# Altium schematic symbol library Capacitors.SchLib: 161 symbols (part 5 of 6)
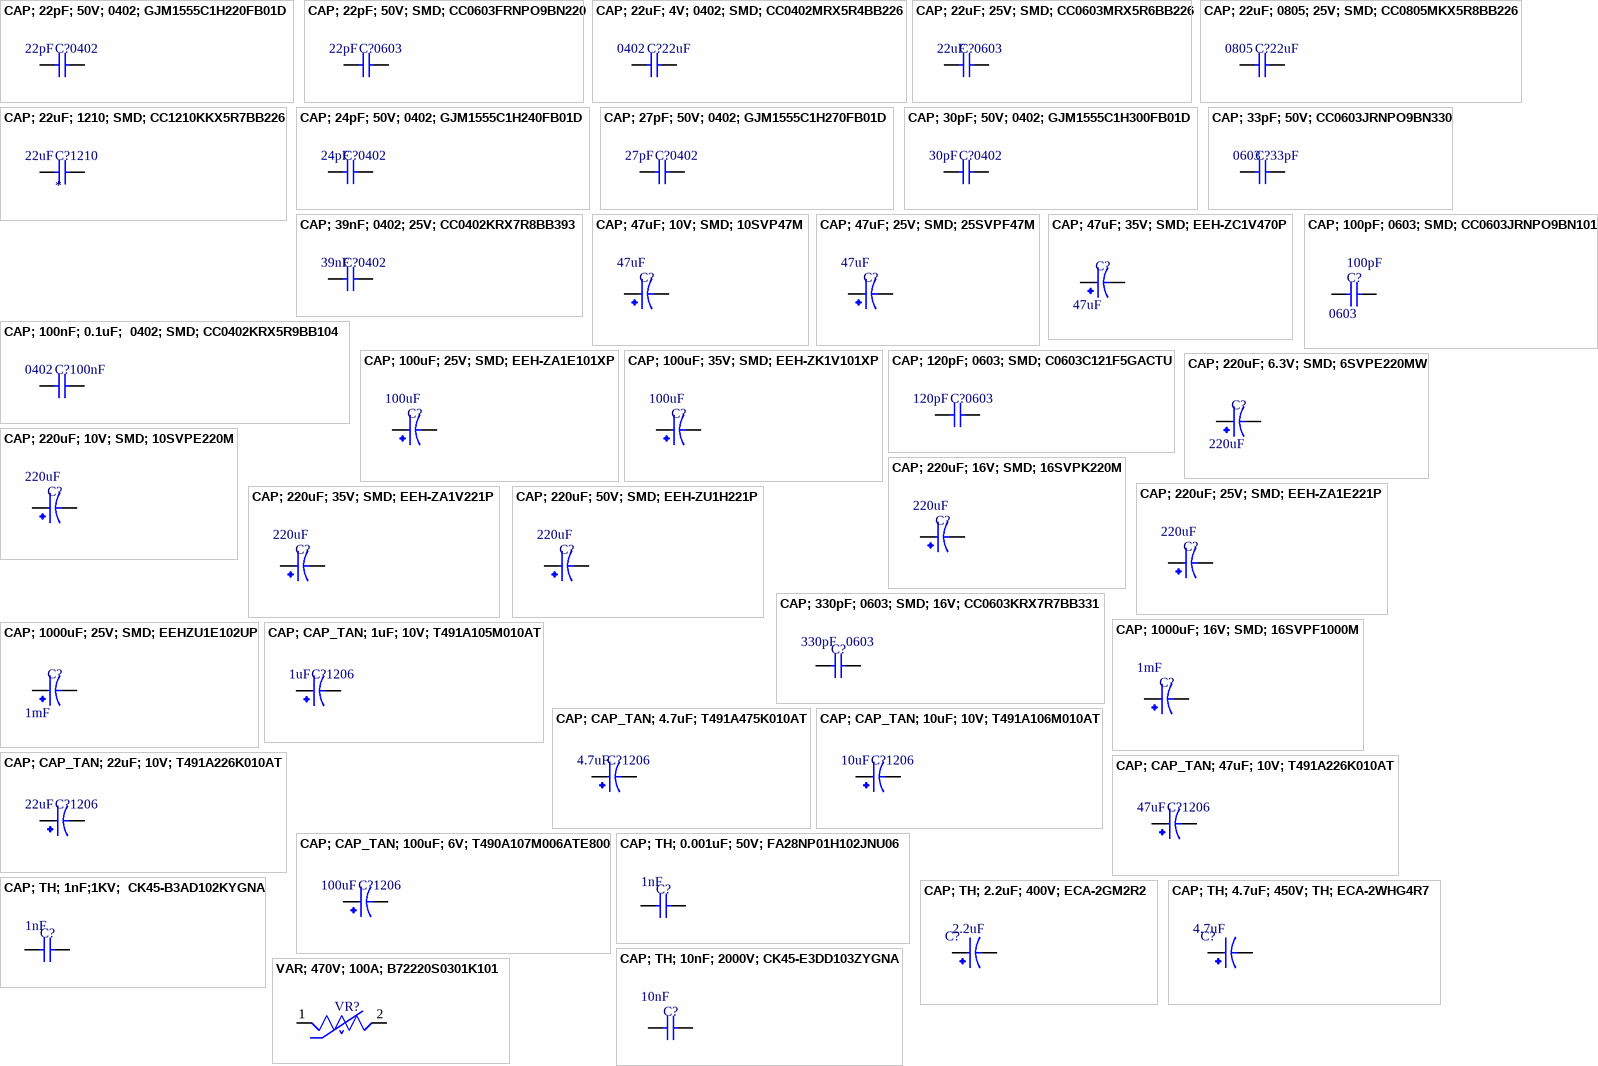
[diagram p8: symbols CAP; 22pF; 50V; 0402; GJM1555C1H220FB01D to VAR; 470V; 100A; B72220S0301K101]

## CAP; 47uF; 25V; SMD; 25SVPF47M
designator C?, comment value 47uF  (hidden comment: 47 µF 25 V Aluminum - Polymer Capacitors Radial, Can - SMD 30mOhm 5000 Hrs @ 105°C)
Cap Aluminum Polymer 47uF 25VDC 20%( 6.3 X 5.9mm) SMD 0.03 Ohm 2800mA 5000h 105C T/R; Manufacturer: Panasonic; Manufacturer Part Number: 25SVPF47M; ESR (Equivalent Series Resistance): 30mR; Ripple Current: 2.8A; Voltage Rating: 25V; Leakage Current: 235uA; Life (Hours): 5000Hour; Dissipation Factor: 12%; Designer: TVBac; Supplier: Digikey; Supplier Part Number: P16513CT-ND; RoHS: Yes; Category: Polymer Capacitors; Stock: 16211; Pricing: 1=1.09, 10=0.772, 50=0.7104, 100=0.649, 500=0.507 (USD); Mounting Technology: Surface Mount; Case/Package: Radial; Pins: 6; Material: Polymer; Min Operating Temperature: -55°C; Max Operating Temperature: 105°C; Tolerance: 20%; Packaging: Tape and Reel; Package Quantity: 1000; Ripple Current (AC): 2.8A; Voltage Rating (DC): 25V; Termination: SMD/SMT; Voltage: 25V; Series: OS-CON™, SVPF; Diameter: 6.3mm; Length: 5.9mm; Height: 5.9mm; Reach SVHC Compliant: No; RoHS Compliant: Yes; ComponentLink1URL: https://datasheet.ciiva.com/25746/1734360-25746558.pdf?src-supplier=Farnell; ComponentLink1Description: https://datasheet.ciiva.com/25746/1734360-25746558.pdf?src-supplier=Farnell; ComponentLink2URL: https://datasheet.ciiva.com/24025/svpf-os-262415-24025725.pdf?src-supplier=Mouser; ComponentLink2Description: https://datasheet.ciiva.com/24025/svpf-os-262415-24025725.pdf?src-supplier=Mouser; ComponentLink3URL: https://datasheet.ciiva.com/48542/svpf-eng-ds-48542390.pdf?src-supplier=Distrelec; ComponentLink3Description: https://datasheet.ciiva.com/48542/svpf-eng-ds-48542390.pdf?src-supplier=Distrelec; ComponentLink4URL: https://datasheet.ciiva.com/22746/1734360-22746218.pdf?src-supplier=Element14; ComponentLink4Description: https://datasheet.ciiva.com/22746/1734360-22746218.pdf?src-supplier=Element14; ComponentLink5Description: Link Digikey; ComponentLink5URL: https://www.digikey.com/en/products/detail/panasonic-electronic-components/25SVPF47M/4204845
footprint SMD-DxLxW-6.3x6.6x6.6-PEC
pins: 1, 2

## CAP; 47uF; 35V; SMD; EEH-ZC1V470P
designator C?, comment value 47uF  (hidden comment: 47 µF 35 V Aluminum - Polymer Capacitors Radial, Can - SMD 60mOhm 4000 Hrs @ 125°C)
Cap Aluminum Polymer Hybrid 47uF 35VDC 20% (6.3 X 5.8mm) SMD 0.06 Ohm 900mA 4000h 125C T/R; Manufacturer: Panasonic; Manufacturer Part Number: EEH-ZC1V470P; Dissipation Factor: 12%; Designer: TVBac; Supplier: Digikey; Supplier Part Number: P15473CT-ND; RoHS: Yes; Category: Polymer Capacitors; Stock: 9327; Pricing: 1=1.12, 10=0.697, 50=0.5252, 100=0.4717, 500=0.38064, 1000=0.35218, 2000=0.32863, 3000=0.31677, 5000=0.30358, 7000=0.29584, 10000=0.28837, 25000=0.2722 (USD); Lead Free: 5697LeadFree; ComponentLink1URL: https://datasheet.ciiva.com/25613/0900766b810af175-25613701.pdf?src-supplier=Rs; ComponentLink1Description: https://datasheet.ciiva.com/25613/0900766b810af175-25613701.pdf?src-supplier=Rs; ComponentLink2URL: https://datasheet.ciiva.com/41449/001179716-da-01-en-elko-vzc-d-47-uf-35v-125c-41449869.pdf?src-supplier=Conrad; ComponentLink2Description: https://datasheet.ciiva.com/41449/001179716-da-01-en-elko-vzc-d-47-uf-35v-125c-41449869.pdf?src-supplier=Conrad; ComponentLink3URL: https://datasheet.ciiva.com/28692/1728949-28692725.pdf?src-supplier=Element14; ComponentLink3Description: https://datasheet.ciiva.com/28692/1728949-28692725.pdf?src-supplier=Element14; ComponentLink4URL: https://datasheet.ciiva.com/30515/70314705-30515160.pdf?src-supplier=Allied+Electronics; ComponentLink4Description: https://datasheet.ciiva.com/30515/70314705-30515160.pdf?src-supplier=Allied+Electronics; ComponentLink5URL: https://datasheet.ciiva.com/48542/eehzc-eng-tds-48542199.pdf?src-supplier=Distrelec; ComponentLink5Description: https://datasheet.ciiva.com/48542/eehzc-eng-tds-48542199.pdf?src-supplier=Distrelec; ComponentLink6URL: https://datasheet.ciiva.com/6326/aba0000ce138-6326623.pdf?src-supplier=Digikey; ComponentLink6Description: https://datasheet.ciiva.com/6326/aba0000ce138-6326623.pdf?src-supplier=Digikey; ComponentLink7URL: https://datasheet.ciiva.com/11679/aba0000ce138-11679237.pdf?src-supplier=Avnet; ComponentLink7Description: https://datasheet.ciiva.com/11679/aba0000ce138-11679237.pdf?src-supplier=Avnet; ComponentLink8URL: https://datasheet.ciiva.com/10331/aba0000ce138-10331166.pdf?src-supplier=Avnet; ComponentLink8Description: https://datasheet.ciiva.com/10331/aba0000ce138-10331166.pdf?src-supplier=Avnet; ComponentLink9URL: https://datasheet.ciiva.com/24022/eeh-zc-datasheet-197355-24022205.pdf?src-supplier=Mouser; ComponentLink9Description: https://datasheet.ciiva.com/24022/eeh-zc-datasheet-197355-24022205.pdf?src-supplier=Mouser; ComponentLink10Description: Link Digikey; ComponentLink10URL: *
footprint SMD-DxLxW-6.3x6.6x6.6-PEC
pins: 1, 2

## CAP; 100nF; 0.1uF;  0402; SMD; CC0402KRX5R9BB104
designator C?, comment value 100nF  Package: 0402  (hidden comment: 0.1 µF ±10% 50V Ceramic Capacitor X5R 0402 (1005 Metric))
50V 100nF X5R ±10% 0402 Multilayer Ceramic Capacitors MLCC - SMD/SMT ROHS; Manufacturer: Yageo; Manufacturer Part Number: CC0402KRX5R9BB104; Material: 4241ConductorMaterial; Dielectric: 1537DielectricType; Temperature Coefficient: 30ppm/°C; Supplier: Avnet; Supplier Part Number: CC0402KRX5R9BB104; RoHS: Yes; Category: Ceramic Capacitors; Stock: 310000; Pricing: 10000=0.00318, 20000=0.00313, 40000=0.00309, 60000=0.00302, 80000=0.00297 (USD); Mounting Technology: Surface Mount; Case/Package: 0402; Case Code (Imperial): 0402; Case Code (Metric): 1005; Min Operating Temperature: -55°C; Max Operating Temperature: 85°C; Packaging: Cut Tape; Voltage Rating: 50V; Tolerance: 10%; Series: CC; Voltage Rating (DC): 50V; Length: 0.039inch; Width: 0.02inch; Height: 550um; Thickness: 0.022inch; RoHS Compliant: Yes; Halogen Free: 5694HalogenFree; Lead Free: 5697LeadFree; ComponentLink1URL: http://www.yageo.com/documents/recent/UPY-GPHC_X5R_4V-to-50V_25.pdf?src-supplier=Digikey; ComponentLink1Description: http://www.yageo.com/documents/recent/UPY-GPHC_X5R_4V-to-50V_25.pdf?src-supplier=Digikey; ComponentLink2URL: https://datasheet.octopart.com/CC0402KRX5R9BB104-Yageo-datasheet-140260304.pdf?src-supplier=Newark; ComponentLink2Description: https://datasheet.octopart.com/CC0402KRX5R9BB104-Yageo-datasheet-140260304.pdf?src-supplier=Newark; ComponentLink3URL: https://datasheet.octopart.com/CC0402KRX5R9BB104-Yageo-datasheet-149070021.pdf?src-supplier=TME; ComponentLink3Description: https://datasheet.octopart.com/CC0402KRX5R9BB104-Yageo-datasheet-149070021.pdf?src-supplier=TME
footprint SMD-CAP-0402-YAGEO
pins: 1, 2

## CAP; 100pF; 0603; SMD; CC0603JRNPO9BN101
designator C?, comment value 100pF  Package: 0603  (hidden comment: 100 pF ±5% 50V Ceramic Capacitor C0G, NP0 0603 (1608 Metric))
0603 100 pF 50 V ±5 % Tolerance NP0 SMT Multilayer Ceramic Capacitor; Manufacturer: Yageo; Manufacturer Part Number: CC0603JRNPO9BN101; Temperature Coefficient: 30ppm/°C; Insulation Resistance: 100GR; Supplier: Future Electronics; Supplier Part Number: 4143889; RoHS: Yes; Category: Ceramic Capacitors; Stock: 1960000; Pricing: 4000=0.0039, 12000=0.0038, 20000=0.0037, 80000=0.0036, 120000=0.0035 (USD); Mounting Technology: Surface Mount; Case/Package: 0603; Pins: 2; Case Code (Imperial): 0603; Case Code (Metric): 1608; Min Operating Temperature: -55°C; Max Operating Temperature: 125°C; Voltage Rating: 50V; Voltage Rating (DC): 50V; Tolerance: 5%; Dielectric: C0G; Termination: SMD/SMT; Voltage: 50V; Voltage Rating (AC): 50V; Packaging: Tape and Reel; Package Quantity: 4000; Series: CC; Length: 1.6mm; Width: 0.8mm; Height: 0.8mm; Depth: 0.8mm; Radiation Hardening: No; Lead Free: Lead Free; Halogen Free: 5694HalogenFree; RoHS Compliant: Yes; Reach SVHC Compliant: Unknown; ComponentLink1URL: https://datasheet.ciiva.com/11786/0900766b8079c870-11786060.pdf?src-supplier=Rs; ComponentLink1Description: https://datasheet.ciiva.com/11786/0900766b8079c870-11786060.pdf?src-supplier=Rs; ComponentLink2URL: https://datasheet.ciiva.com/7978/1443161-7978127.pdf?src-supplier=Element14; ComponentLink2Description: https://datasheet.ciiva.com/7978/1443161-7978127.pdf?src-supplier=Element14; ComponentLink3URL: https://datasheet.ciiva.com/28450/1443161-28450457.pdf?src-supplier=Element14; ComponentLink3Description: https://datasheet.ciiva.com/28450/1443161-28450457.pdf?src-supplier=Element14; ComponentLink4URL: https://datasheet.ciiva.com/46430/1835847-46430151.pdf?src-supplier=Element14; ComponentLink4Description: https://datasheet.ciiva.com/46430/1835847-46430151.pdf?src-supplier=Element14; ComponentLink5URL: https://datasheet.ciiva.com/144/mlccorderingcode-144629.pdf?src-supplier=Digikey; ComponentLink5Description: https://datasheet.ciiva.com/144/mlccorderingcode-144629.pdf?src-supplier=Digikey; ComponentLink6URL: https://datasheet.ciiva.com/144/mlccorderingcode-144628.pdf?src-supplier=Digikey; ComponentLink6Description: https://datasheet.ciiva.com/144/mlccorderingcode-144628.pdf?src-supplier=Digikey; ComponentLink7URL: https://datasheet.ciiva.com/144/mlccorderingcode-144630.pdf?src-supplier=Digikey; ComponentLink7Description: https://datasheet.ciiva.com/144/mlccorderingcode-144630.pdf?src-supplier=Digikey; ComponentLink8URL: https://datasheet.ciiva.com/11464/upy-gp-np0-16v-to-50v-8-11464725.pdf?src-supplier=Avnet; ComponentLink8Description: https://datasheet.ciiva.com/11464/upy-gp-np0-16v-to-50v-8-11464725.pdf?src-supplier=Avnet; ComponentLink9URL: https://datasheet.ciiva.com/26829/getdatasheetpartid-403525-26829372.pdf?src-supplier=Verical; ComponentLink9Description: https://datasheet.ciiva.com/26829/getdatasheetpartid-403525-26829372.pdf?src-supplier=Verical
footprint SMD-CAP-0603-YAGEO
pins: 1, 2

## CAP; 100uF; 25V; SMD; EEH-ZA1E101XP
designator C?, comment value 100uF  (hidden comment: 100 µF 25 V Aluminum - Polymer Capacitors Radial, Can - SMD 30mOhm 10000 Hrs @ 105°C)
Cap Aluminum 100uF 25V 20% (6.3 X 7.7mm) SMD 0.03 Ohm 2000mA 5000h 105 C Embossed T/R; Manufacturer: Panasonic; Manufacturer Part Number: EEH-ZA1E101XP; ESR (Equivalent Series Resistance): 30mR; Ripple Current: 2A; Life (Hours): 5000Hour; Leakage Current: 25uA; Dissipation Factor: 14%; Lead Diameter: 0.65mm; Designer: TVBac; Supplier: Digikey; Supplier Part Number: P15436CT-ND; RoHS: Yes; Category: Polymer Capacitors; Stock: 16312; Pricing: 1=1.59, 10=1.006, 50=0.7694, 100=0.6957 (USD); Mounting Technology: Surface Mount,PCB; Case/Package: Radial; Pins: 8; Material: Polymer; Min Operating Temperature: -55°C; Max Operating Temperature: 105°C; Ripple Current (AC): 2A; Packaging: Tape and Reel; Tolerance: 20%; Voltage Rating: 25V; Voltage Rating (DC): 25V; Package Quantity: 900; Termination: SMD/SMT; Voltage: 25V; Series: ZA; Construction: Cylindrical; Technology: HYBRID; Diameter: 6.3mm; Length: 7.7mm; Height: 7.7mm; Lead Pitch: 1.8mm; Ratings: AEC-Q200; Radiation Hardening: No; Reach SVHC Compliant: No; Lead Free: Lead Free; RoHS Compliant: Yes; ComponentLink1URL: https://datasheet.ciiva.com/14818/86aba0000ce136-14818650.pdf?src-supplier=Arrow+Electronics; ComponentLink1Description: https://datasheet.ciiva.com/14818/86aba0000ce136-14818650.pdf?src-supplier=Arrow+Electronics; ComponentLink2URL: https://datasheet.ciiva.com/25614/0900766b81233638-25614238.pdf?src-supplier=Rs; ComponentLink2Description: https://datasheet.ciiva.com/25614/0900766b81233638-25614238.pdf?src-supplier=Rs; ComponentLink3URL: https://datasheet.ciiva.com/6303/aba0000ce136-6303802.pdf?src-supplier=Digikey; ComponentLink3Description: https://datasheet.ciiva.com/6303/aba0000ce136-6303802.pdf?src-supplier=Digikey; ComponentLink4URL: https://datasheet.ciiva.com/6303/aba0000ce136-6303804.pdf?src-supplier=Digikey; ComponentLink4Description: https://datasheet.ciiva.com/6303/aba0000ce136-6303804.pdf?src-supplier=Digikey; ComponentLink5URL: https://datasheet.ciiva.com/6303/aba0000ce136-6303805.pdf?src-supplier=Digikey; ComponentLink5Description: https://datasheet.ciiva.com/6303/aba0000ce136-6303805.pdf?src-supplier=Digikey; ComponentLink6URL: https://datasheet.ciiva.com/6134/1536543-6134360.pdf?src-supplier=Farnell; ComponentLink6Description: https://datasheet.ciiva.com/6134/1536543-6134360.pdf?src-supplier=Farnell; ComponentLink7URL: https://datasheet.ciiva.com/32372/86aba0000ce136-32372459.pdf?src-supplier=Onlinecomponents.com; ComponentLink7Description: https://datasheet.ciiva.com/32372/86aba0000ce136-32372459.pdf?src-supplier=Onlinecomponents.com; ComponentLink8URL: https://datasheet.ciiva.com/14604/70314667-14604008.pdf?src-supplier=Allied+Electronics; ComponentLink8Description: https://datasheet.ciiva.com/14604/70314667-14604008.pdf?src-supplier=Allied+Electronics; ComponentLink9URL: https://datasheet.ciiva.com/48540/eehza-eng-tds-48540972.pdf?src-supplier=Distrelec; ComponentLink9Description: https://datasheet.ciiva.com/48540/eehza-eng-tds-48540972.pdf?src-supplier=Distrelec; ComponentLink10URL: https://datasheet.ciiva.com/7902/1536543-7902997.pdf?src-supplier=Element14; ComponentLink10Description: https://datasheet.ciiva.com/7902/1536543-7902997.pdf?src-supplier=Element14; ComponentLink11Description: Link Digikey; ComponentLink11URL: https://www.digikey.com/en/products/detail/panasonic-electronic-components/EEH-ZA1E101XP/3088115
footprint SMD-DxLxW-6.3x6.6x6.6-PEC
pins: 1, 2

## CAP; 100uF; 35V; SMD; EEH-ZK1V101XP
designator C?, comment value 100uF  (hidden comment: 100 µF 35 V Aluminum - Polymer Capacitors Radial, Can - SMD 35mOhm 4000 Hrs @ 125°C)
Conductive Polymer Hybrid Aluminum Electrolytic Capacitors, 100µF, 35V, -55 to 125¡C; Manufacturer: Panasonic; Manufacturer Part Number: EEH-ZK1V101XP; Tolerance: 20%; ESR (Equivalent Series Resistance): 35mR; Dissipation Factor: 12%; Leakage Current: 35uA; Ripple Current: 1.7A; Designer: TVBac; Supplier: Digikey; Supplier Part Number: P121401CT-ND; RoHS: No; Category: Polymer Capacitors; Stock: 7009; Pricing: 1=2.04, 10=1.303, 50=1.0068, 100=0.9145 (USD); Mounting Technology: Surface Mount; Case/Package: Radial; Material: Polymer; Min Operating Temperature: -55°C; Max Operating Temperature: 125°C; Packaging: Cut Tape; Series: ZK; Voltage Rating (DC): 35V; Height: 8mm; Ratings: AEC-Q200; ComponentLink1URL: http://industrial.panasonic.com/cdbs/www-data/pdf/RDD0000/ABA0000C1229.pdf?src-supplier=Element14; ComponentLink1Description: http://industrial.panasonic.com/cdbs/www-data/pdf/RDD0000/ABA0000C1229.pdf?src-supplier=Element14; ComponentLink2URL: http://industrial.panasonic.com/cdbs/www-data/pdf/RDD0000/ABA0000C1229.pdf?src-supplier=Farnell; ComponentLink2Description: http://industrial.panasonic.com/cdbs/www-data/pdf/RDD0000/ABA0000C1229.pdf?src-supplier=Farnell; ComponentLink3URL: https://industrial.panasonic.com/cdbs/www-data/pdf/RDD0000/DMD0000COL81.pdf?src-supplier=Digikey; ComponentLink3Description: https://industrial.panasonic.com/cdbs/www-data/pdf/RDD0000/DMD0000COL81.pdf?src-supplier=Digikey; ComponentLink4URL: https://datasheet.octopart.com/EEHZK1V101XP-Panasonic-datasheet-136661388.pdf?src-supplier=Newark; ComponentLink4Description: https://datasheet.octopart.com/EEHZK1V101XP-Panasonic-datasheet-136661388.pdf?src-supplier=Newark; ComponentLink5URL: http://industrial.panasonic.com/cdbs/www-data/pdf/RDD0000/ABA0000C1229.pdf?src-supplier=Newark; ComponentLink5Description: http://industrial.panasonic.com/cdbs/www-data/pdf/RDD0000/ABA0000C1229.pdf?src-supplier=Newark; ComponentLink6URL: https://datasheet.octopart.com/EEHZK1V101XP-Panasonic-datasheet-137716607.pdf?src-supplier=TME; ComponentLink6Description: https://datasheet.octopart.com/EEHZK1V101XP-Panasonic-datasheet-137716607.pdf?src-supplier=TME; Voltage Rating: 35V
footprint SMD-DxLxW-6.3x6.6x6.6-PEC
pins: 1, 2

## CAP; 120pF; 0603; SMD; C0603C121F5GACTU
designator C?, comment value 120pF  Package: 0603  (hidden comment: 120 pF ±1% 50V Ceramic Capacitor C0G, NP0 0603 (1608 Metric))
Cap Ceramic 120pF 50V C0G 1% Pad SMD 0603 125°C T/R; Manufacturer: KEMET; Manufacturer Part Number: C0603C121F5GACTU; Dissipation Factor: 0.1%; Designer: TVBac; Supplier: Arrow Electronics; Supplier Part Number: C0603C121F5GACTU; RoHS: Yes; Category: Ceramic Capacitors; Stock: 3043; Pricing: 355=0.4013 (USD); Mounting Technology: Surface Mount; Case/Package: 0603; Case Code (Metric): 1608; Case Code (Imperial): 0603; Dielectric Material: Ceramic; Min Operating Temperature: -55°C; Max Operating Temperature: 125°C; Package Quantity: 1; Voltage Rating: 50V; Tolerance: 1%; Packaging: Tape and Reel; Voltage Rating (DC): 50V; Dielectric: C0G; Termination: SMD/SMT; Series: C; Construction: Flat; Length: 1.6mm; Width: 0.031inch; Height: 0.8mm; Thickness: 0.034inch; Lead Pitch: 0.7mm; Depth: 0.8mm; Radiation Hardening: No; Reach SVHC Compliant: No; RoHS Compliant: Yes; Lead Free: 5697LeadFree; ComponentLink1URL: https://datasheet.ciiva.com/5426/kem-c1003-c0g-smd-356956-5426955.pdf?src-supplier=Mouser; ComponentLink1Description: https://datasheet.ciiva.com/5426/kem-c1003-c0g-smd-356956-5426955.pdf?src-supplier=Mouser
footprint SMD-CAP-0603-KEMET
pins: 1, 2

## CAP; 220uF; 6.3V; SMD; 6SVPE220MW
designator C?, comment value 220uF  (hidden comment: 220 µF 6.3 V Aluminum - Polymer Capacitors Radial, Can - SMD 15mOhm 2000 Hrs @ 105°C)
Cap Aluminum Polymer 220uF 6.3VDC 20%( 5 X 5.9mm) SMD 0.015 Ohm 3150mA 2000h 105C T/R; Manufacturer: Panasonic; Manufacturer Part Number: 6SVPE220MW; Material: 4242ConductorMaterial; Designer: TVBac; Supplier: Mouser; Supplier Part Number: 667-6SVPE220MW; RoHS: Yes; Category: Polymer Capacitors; Stock: 18203; Pricing: 1=0.98, 10=0.569, 50=0.569, 100=0.499, 1000=0.336, 10000=0.298 (USD); ComponentLink1URL: https://datasheet.ciiva.com/22746/1734359-22746312.pdf?src-supplier=Element14; ComponentLink1Description: https://datasheet.ciiva.com/22746/1734359-22746312.pdf?src-supplier=Element14; ComponentLink2URL: https://datasheet.ciiva.com/25767/1734359-25767773.pdf?src-supplier=Farnell; ComponentLink2Description: https://datasheet.ciiva.com/25767/1734359-25767773.pdf?src-supplier=Farnell; ComponentLink3Description: Link Digikey; ComponentLink3URL: https://www.digikey.com/en/products/detail/panasonic-electronic-components/6SVPE220MW/4209271
footprint SMD-DxLxW-5.0x5.3x5.3-PEC
pins: 1, 2

## CAP; 220uF; 10V; SMD; 10SVPE220M
designator C?, comment value 220uF  (hidden comment: 220 µF 10 V Aluminum - Polymer Capacitors Radial, Can - SMD 20mOhm 2000 Hrs @ 105°C)
Cap Aluminum Polymer 220uF 10VDC 20%( 6.3 X 5.9mm) SMD 0.02 Ohm 2700mA 2000h 105C T/R; Manufacturer: Panasonic; Manufacturer Part Number: 10SVPE220M; Voltage Rating: 10V; ESR (Equivalent Series Resistance): 20mR; Ripple Current: 2.7A; Leakage Current: 500uA; Life (Hours): 2000Hour; Dissipation Factor: 12%; Designer: TVBac; Supplier: Mouser; Supplier Part Number: 667-10SVPE220M; RoHS: Yes; Category: Polymer Capacitors; Stock: 1969; Pricing: 1=1.66, 10=1.53, 50=1.44, 100=1.19, 1000=0.857, 10000=0.768 (USD); Mounting Technology: Surface Mount; Case/Package: Radial; Pins: 6; Min Operating Temperature: -55°C; Max Operating Temperature: 105°C; Package Quantity: 1000; Packaging: Tape and Reel; Tolerance: 20%; Voltage Rating (DC): 10V; Ripple Current (AC): 2.7A; Termination: SMD/SMT; Voltage: 10V; Series: OS-CON™, SVPE; Construction: Cylindrical; Diameter: 6.3mm; Length: 5.9mm; Height: 5.9mm; Reach SVHC Compliant: No; Lead Free: Lead Free; RoHS Compliant: Yes; ComponentLink1URL: https://datasheet.ciiva.com/25767/1734359-25767468.pdf?src-supplier=Farnell; ComponentLink1Description: https://datasheet.ciiva.com/25767/1734359-25767468.pdf?src-supplier=Farnell; ComponentLink2URL: https://datasheet.ciiva.com/22746/1734359-22746158.pdf?src-supplier=Element14; ComponentLink2Description: https://datasheet.ciiva.com/22746/1734359-22746158.pdf?src-supplier=Element14; ComponentLink3Description: Link Digikey; ComponentLink3URL: https://www.digikey.com/en/products/detail/panasonic-electronic-components/10SVPE220M/4204777
footprint SMD-DxLxW-6.3x6.6x6.6-PEC
pins: 1, 2

## CAP; 220uF; 16V; SMD; 16SVPK220M
designator C?, comment value 220uF  (hidden comment: 220 µF 16 V Aluminum - Polymer Capacitors Radial, Can - SMD 22mOhm 1000 Hrs @ 125°C)
Cap Aluminum Polymer 220uF 16VDC 20% (6.3 X 5.9mm) SMD 0.022 Ohm 1040mA 1000h 125C T/R; Manufacturer: Panasonic; Manufacturer Part Number: 16SVPK220M; Voltage Rating: 16V; ESR (Equivalent Series Resistance): 22mR; Dissipation Factor: 12%; Leakage Current: 704uA; Ripple Current: 3.3A; Designer: TVBac; Supplier: Mouser; Supplier Part Number: 667-16SVPK220M; RoHS: Yes; Category: Polymer Capacitors; Stock: 2355; Pricing: 1=1.29, 10=0.794, 50=0.794, 100=0.723, 1000=0.489, 10000=0.45 (USD); Mounting Technology: Surface Mount; Case/Package: Radial; Material: Polymer; Min Operating Temperature: -55°C; Max Operating Temperature: 125°C; Packaging: Cut Tape; Tolerance: 20%; Series: OS-CON™, SVPK; Voltage Rating (DC): 16V; Height: 6mm; ComponentLink1URL: https://industrial.panasonic.com/cdbs/www-data/pdf/AAB8000/AAB8000C226.pdf?src-supplier=Digikey; ComponentLink1Description: https://industrial.panasonic.com/cdbs/www-data/pdf/AAB8000/AAB8000C226.pdf?src-supplier=Digikey; ComponentLink2URL: https://datasheet.octopart.com/16SVPK220M-Panasonic-datasheet-136612383.pdf?src-supplier=Element14; ComponentLink2Description: https://datasheet.octopart.com/16SVPK220M-Panasonic-datasheet-136612383.pdf?src-supplier=Element14; ComponentLink3URL: https://datasheet.octopart.com/16SVPK220M-Panasonic-datasheet-142271499.pdf?src-supplier=Electro+Sonic; ComponentLink3Description: https://datasheet.octopart.com/16SVPK220M-Panasonic-datasheet-142271499.pdf?src-supplier=Electro+Sonic; ComponentLink4URL: https://datasheet.octopart.com/16SVPK220M-Panasonic-datasheet-151949914.pdf?src-supplier=TME; ComponentLink4Description: https://datasheet.octopart.com/16SVPK220M-Panasonic-datasheet-151949914.pdf?src-supplier=TME; ComponentLink5Description: Link Digikey; ComponentLink5URL: https://www.digikey.com/en/products/detail/panasonic-electronic-components/16SVPK220M/9765095
footprint SMD-DxLxW-6.3x6.6x6.6-PEC
pins: 1, 2

## CAP; 220uF; 25V; SMD; EEH-ZA1E221P
designator C?, comment value 220uF  (hidden comment: 220 µF 25 V Aluminum - Polymer Capacitors Radial, Can - SMD 27mOhm 10000 Hrs @ 105°C)
Cap Aluminum 220uF 25V 20% (8 X 10.2mm) SMD 0.027 Ohm 2300mA 5000h 105 C Embossed T/R; Manufacturer: Panasonic; Manufacturer Part Number: EEH-ZA1E221P; ESR (Equivalent Series Resistance): 27mR; Ripple Current: 2.3A; Life (Hours): 10000Hour; Leakage Current: 55uA; Dissipation Factor: 14%; Lead Diameter: 0.9mm; Designer: TVBac; Supplier: Mouser; Supplier Part Number: 667-EEH-ZA1E221P; RoHS: Yes; Category: Polymer Capacitors; Stock: 1873; Pricing: 1=1.51, 10=0.895, 50=0.895, 100=0.746, 500=0.622, 1000=0.598, 2500=0.524, 5000=0.511, 10000=0.482 (USD); Mounting Technology: Surface Mount,PCB; Case/Package: Radial; Material: Polymer; Min Operating Temperature: -55°C; Max Operating Temperature: 105°C; Packaging: Tape and Reel; Voltage Rating: 25V; Tolerance: 20%; Package Quantity: 500; Ripple Current (AC): 2.3A; Voltage Rating (DC): 25V; Termination: SMD/SMT; Voltage: 25V; Series: ZA; Technology: HYBRID; Construction: Cylindrical; Diameter: 8mm; Length: 10.2mm; Height: 10.2mm; Lead Pitch: 3.1mm; Ratings: AEC-Q200; Radiation Hardening: No; Reach SVHC Compliant: No; Lead Free: Lead Free; RoHS Compliant: Yes; ComponentLink1URL: https://datasheet.ciiva.com/25613/0900766b81233638-25613815.pdf?src-supplier=Rs; ComponentLink1Description: https://datasheet.ciiva.com/25613/0900766b81233638-25613815.pdf?src-supplier=Rs; ComponentLink2URL: https://datasheet.ciiva.com/6301/aba0000ce136-6301615.pdf?src-supplier=Digikey; ComponentLink2Description: https://datasheet.ciiva.com/6301/aba0000ce136-6301615.pdf?src-supplier=Digikey; ComponentLink3URL: https://datasheet.ciiva.com/10327/aba0000ce136-10327230.pdf?src-supplier=Avnet; ComponentLink3Description: https://datasheet.ciiva.com/10327/aba0000ce136-10327230.pdf?src-supplier=Avnet; ComponentLink4URL: https://datasheet.ciiva.com/11677/aba0000ce136-11677614.pdf?src-supplier=Avnet; ComponentLink4Description: https://datasheet.ciiva.com/11677/aba0000ce136-11677614.pdf?src-supplier=Avnet; ComponentLink5URL: https://datasheet.ciiva.com/32372/86aba0000ce136-32372729.pdf?src-supplier=Onlinecomponents.com; ComponentLink5Description: https://datasheet.ciiva.com/32372/86aba0000ce136-32372729.pdf?src-supplier=Onlinecomponents.com; ComponentLink6URL: https://datasheet.ciiva.com/30515/70314667-30515143.pdf?src-supplier=Allied+Electronics; ComponentLink6Description: https://datasheet.ciiva.com/30515/70314667-30515143.pdf?src-supplier=Allied+Electronics; ComponentLink7URL: https://datasheet.ciiva.com/48540/eehza-eng-tds-48540965.pdf?src-supplier=Distrelec; ComponentLink7Description: https://datasheet.ciiva.com/48540/eehza-eng-tds-48540965.pdf?src-supplier=Distrelec; ComponentLink8URL: https://datasheet.ciiva.com/22730/1536543-22730550.pdf?src-supplier=Element14; ComponentLink8Description: https://datasheet.ciiva.com/22730/1536543-22730550.pdf?src-supplier=Element14; ComponentLink9Description: Link Digikey; ComponentLink9URL: https://www.digikey.com/en/products/detail/panasonic-electronic-components/EEH-ZA1E221P/3088116
footprint SMD-DxLxW-8.0x8.3x8.3-PEC
pins: 1, 2

## CAP; 220uF; 35V; SMD; EEH-ZA1V221P
designator C?, comment value 220uF  (hidden comment: 220 µF 35 V Aluminum - Polymer Capacitors Radial, Can - SMD 20mOhm 10000 Hrs @ 105°C)
Cap Aluminum Polymer 220uF 35V 20% Cylindrical 20m Ohm 2500mA 10000 hr 105°C Emboss T/R; Manufacturer: Panasonic; Manufacturer Part Number: EEH-ZA1V221P; ESR (Equivalent Series Resistance): 20mR; Designer: TVBac; Supplier: Mouser; Supplier Part Number: 667-EEH-ZA1V221P; RoHS: No; Category: Polymer Capacitors; Stock: 16; Pricing: 1=1.77, 10=1.01, 50=1.01, 100=0.913, 1000=0.558, 10000=0.545 (USD); Mounting Technology: Surface Mount; Case/Package: Radial; Min Operating Temperature: -55°C; Max Operating Temperature: 105°C; Series: ZA; Tolerance: 20%; Voltage Rating: 35V; Ratings: AEC-Q200; ComponentLink1URL: https://na.industrial.panasonic.com/file-download/43?src-supplier=Digikey; ComponentLink1Description: https://na.industrial.panasonic.com/file-download/43?src-supplier=Digikey; ComponentLink2URL: https://datasheet.octopart.com/EEH-ZA1V221P-Panasonic-datasheet-136612405.pdf?src-supplier=Electro+Sonic; ComponentLink2Description: https://datasheet.octopart.com/EEH-ZA1V221P-Panasonic-datasheet-136612405.pdf?src-supplier=Electro+Sonic; ComponentLink3Description: Link Digikey; ComponentLink3URL: https://www.digikey.com/en/products/detail/panasonic-electronic-components/EEH-ZA1V221P/10292375
footprint SMD-DxLxW-10.0x10.3x10.3-PEC
pins: 1, 2

## CAP; 220uF; 50V; SMD; EEH-ZU1H221P
designator C?, comment value 220uF  (hidden comment: 220 µF 50 V Aluminum - Polymer Capacitors Radial, Can - SMD 10mOhm 4000 Hrs @ 135°C)
Cap Aluminum Polymer Hybrid 220uF 50VDC 20%( 10 X 16.5mm) SMD 0.01 Ohm 5200mA 4000h 135C Automotive T/R; Manufacturer: Panasonic; Manufacturer Part Number: EEH-ZU1H221P; Dissipation Factor: 10%; ESR (Equivalent Series Resistance): 10mR; Leakage Current: 110uA; Life (Hours): 4000Hour; Ripple Current: 5.2A; Voltage Rating: 50V; Designer: TVBac; Supplier: Mouser; Supplier Part Number: 667-EEH-ZU1H221P; RoHS: No; Category: Polymer Capacitors; Stock: 3411; Pricing: 1=2.89, 10=2.04, 50=1.61, 100=1.33, 1000=1.27, 10000=1.02 (USD); Material: Polymer; Min Operating Temperature: -55°C; Max Operating Temperature: 135°C; Tolerance: 20%; Height: 16.8mm; ComponentLink1URL: http://datasheet.octopart.com/EEH-ZU1H221P-Panasonic-datasheet-151655043.pdf?src-supplier=Digikey; ComponentLink1Description: http://datasheet.octopart.com/EEH-ZU1H221P-Panasonic-datasheet-151655043.pdf?src-supplier=Digikey; ComponentLink2URL: http://datasheet.octopart.com/EEH-ZU1H221P-Panasonic-datasheet-151655043.pdf?src-supplier=Newark; ComponentLink2Description: http://datasheet.octopart.com/EEH-ZU1H221P-Panasonic-datasheet-151655043.pdf?src-supplier=Newark; ComponentLink3URL: http://datasheet.octopart.com/EEH-ZU1H221P-Panasonic-datasheet-151655043.pdf?src-supplier=Farnell; ComponentLink3Description: http://datasheet.octopart.com/EEH-ZU1H221P-Panasonic-datasheet-151655043.pdf?src-supplier=Farnell; ComponentLink4URL: http://datasheet.octopart.com/EEH-ZU1H221P-Panasonic-datasheet-151655043.pdf?src-supplier=Mouser; ComponentLink4Description: http://datasheet.octopart.com/EEH-ZU1H221P-Panasonic-datasheet-151655043.pdf?src-supplier=Mouser; ComponentLink5URL: http://datasheet.octopart.com/EEH-ZU1H221P-Panasonic-datasheet-151655043.pdf?src-supplier=Allied+Electronics; ComponentLink5Description: http://datasheet.octopart.com/EEH-ZU1H221P-Panasonic-datasheet-151655043.pdf?src-supplier=Allied+Electronics; ComponentLink6Description: Link Digikey; ComponentLink6URL: https://www.digikey.com/en/products/detail/panasonic-electronic-components/EEH-ZU1H221P/14114091
footprint SMD-DxLxW-10.0x10.3x10.3-PEC
pins: 1, 2

## CAP; 330pF; 0603; SMD; 16V; CC0603KRX7R7BB331
designator C?, comment value 330pF  Package: 0603  (hidden comment: 330 pF ±10% 16V Ceramic Capacitor X7R 0603 (1608 Metric))
Surface Mount Ceramic Multilayer Capacitor 330pF 10% X7R 16V 0603 Paper T/R; Manufacturer: Yageo; Manufacturer Part Number: CC0603KRX7R7BB331; Supplier: Digikey; Supplier Part Number: 13-CC0603KRX7R7BB331CT-ND; RoHS: Yes; Category: Ceramic Capacitors; Stock: 7643; Pricing: 1=0.1, 10=0.038, 100=0.0218, 1000=0.0138 (USD); Case/Package: 0603; Min Operating Temperature: -55°C; Max Operating Temperature: 125°C; Tolerance: 10%; Packaging: Tape and Reel; Dielectric: X7R; Length: 1.6mm; Depth: 0.8mm; RoHS Compliant: Yes
footprint SMD-CAP-0603-YAGEO
pins: 1, 2

## CAP; 1000uF; 16V; SMD; 16SVPF1000M
designator C?, comment value 1mF  (hidden comment: 1000 µF 16 V Aluminum - Polymer Capacitors Radial, Can - SMD 12mOhm 5000 Hrs @ 105°C)
Cap Aluminum Polymer 1000uF 16VDC 20%( 10 X 12.6mm) SMD 0.012 Ohm 5400mA 5000h 105C T/R; Manufacturer Part Number: 16SVPF1000M; Manufacturer: Panasonic; Voltage Rating: 16V; ESR (Equivalent Series Resistance): 12mR; Ripple Current: 5.4A; Leakage Current: 3.2mA; Life (Hours): 5000Hour; Dissipation Factor: 12%; Designer: TVBac; Supplier: Digikey; Supplier Part Number: P16478CT-ND; RoHS: Yes; Category: Polymer Capacitors; Stock: 14700; Pricing: 1=2.5, 10=1.62, 50=1.2638, 100=1.1527 (USD); Mounting Technology: Surface Mount; Case/Package: Radial; Pins: 12; Material: Polymer; Min Operating Temperature: -55°C; Max Operating Temperature: 105°C; Tolerance: 20%; Packaging: Tape and Reel; Voltage Rating (DC): 16V; Package Quantity: 1; Ripple Current (AC): 5.4A; Termination: SMD/SMT; Series: OS-CON, SVPF; Construction: Cylindrical; Diameter: 10mm; Length: 12.6mm; Height: 12.6mm; Height - Seated (Max): 0.5inch; Radiation Hardening: No; Reach SVHC Compliant: No; Lead Free: Lead Free; RoHS Compliant: Yes; ComponentLink1URL: https://datasheet.ciiva.com/48542/svpf-eng-ds-48542381.pdf?src-supplier=Distrelec; ComponentLink1Description: https://datasheet.ciiva.com/48542/svpf-eng-ds-48542381.pdf?src-supplier=Distrelec; ComponentLink2URL: https://datasheet.ciiva.com/26840/getdatasheetpartid-743668-26840727.pdf?src-supplier=Verical; ComponentLink2Description: https://datasheet.ciiva.com/26840/getdatasheetpartid-743668-26840727.pdf?src-supplier=Verical; ComponentLink3URL: https://datasheet.ciiva.com/25740/1734360-25740894.pdf?src-supplier=Farnell; ComponentLink3Description: https://datasheet.ciiva.com/25740/1734360-25740894.pdf?src-supplier=Farnell; ComponentLink4URL: https://datasheet.ciiva.com/22746/1734360-22746189.pdf?src-supplier=Element14; ComponentLink4Description: https://datasheet.ciiva.com/22746/1734360-22746189.pdf?src-supplier=Element14; ComponentLink5Description: Link Digikey; ComponentLink5URL: https://www.digikey.com/en/products/detail/panasonic-electronic-components/16SVPF1000M/4204810; Voltage: 16V
footprint SMD-DxLxW-10.0x10.3x10.3-PEC
pins: 1, 2

## CAP; 1000uF; 25V; SMD; EEHZU1E102UP
designator C?, comment value 1mF  (hidden comment: 1000 µF 25 V Aluminum - Polymer Capacitors Radial, Can - SMD 8mOhm 4000 Hrs @ 135°C)
Manufacturer: Panasonic; Manufacturer Part Number: EEHZU1E102UP; Designer: TVBac; Supplier: Digikey; Supplier Part Number: 10-EEH-ZU1E102UPCT-ND; RoHS: No; Stock: 992; Pricing: 1=3.94, 10=2.619, 50=2.083, 100=1.9156 (USD); ComponentLink1Description: Link Digikey; ComponentLink1URL: https://www.digikey.com/en/products/detail/panasonic-electronic-components/EEH-ZU1E102UP/21727057
footprint SMD-DxLxW-10.0x10.3x10.3-PEC
pins: 1, 2

## CAP; CAP_TAN; 1uF; 10V; T491A105M010AT
designator C?, comment value 1uF  Package: 1206  (hidden comment: 1 µF Molded Tantalum Capacitors 10 V 1206 (3216 Metric) 10Ohm)
Cap Tant Solid 1uF 10V A CASE 20% (3.2 X 1.6 X 1.6mm) SMD 3216-18 125°C T/R; Manufacturer: KEMET; Manufacturer Part Number: T491A105M010AT; Designer: TVBac; Supplier: Digikey; Supplier Part Number: 399-18012-1-ND; RoHS: Yes; Category: Tantalum Capacitors; Stock: 6989; Pricing: 1=0.31, 10=0.123, 50=0.106, 100=0.089, 500=0.085, 1000=0.081 (USD); ComponentLink1URL: https://datasheet.ciiva.com/12884/kem-t2005-t491-12884988.pdf?src-supplier=Mouser; ComponentLink1Description: https://datasheet.ciiva.com/12884/kem-t2005-t491-12884988.pdf?src-supplier=Mouser; ComponentLink2Description: Link Digikey; ComponentLink2URL: https://www.digikey.com/en/products/detail/kemet/T491A105M010AT/8612591
footprint SMD-CAP-TAN-1206-KEMET
pins: 1, 2

## CAP; CAP_TAN; 4.7uF; T491A475K010AT
designator C?, comment value 4.7uF  Package: 1206  (hidden comment: 4.7 µF Molded Tantalum Capacitors 10 V 1206 (3216 Metric) 5Ohm)
Surface Mount Tantalum Capacitor, 4.7 uF, 10 V, ï¿½ 10%, -55 to 125 ï¿½C, 1206 [3216 Metric]; Manufacturer: KEMET; Manufacturer Part Number: T491A475K010AT; Tolerance: 20%; Voltage Rating: 10V; ESR (Equivalent Series Resistance): 5R; Ripple Current: 122mA; Leakage Current: 500nA; Dissipation Factor: 6%; Polarity: Polar; Designer: TVBac; Supplier: Digikey; Supplier Part Number: 399-3696-1-ND; RoHS: Yes; Category: Tantalum Capacitors; Stock: 1619; Pricing: 1=0.37, 10=0.269, 50=0.2214, 100=0.174, 500=0.1505, 1000=0.127 (USD); Mounting Technology: Surface Mount,PCB; Case/Package: 1206; Pins: 2; Case Code (Metric): 3216; Case Code (Imperial): 1206; Dielectric Material: Tantalum; Min Operating Temperature: -55°C; Max Operating Temperature: 125°C; Packaging: Tape and Reel; Package Quantity: 2000; Voltage Rating (DC): 10V; Termination: SMD/SMT; Voltage: 10V; Features: General Purpose; Series: T491; Construction: Flat; Length: 3.2mm; Width: 1.6mm; Height: 1.6mm; Lead Pitch: 1.2mm; Depth: 1.6mm; Size: 1.6mm; Radiation Hardening: No; Reach SVHC Compliant: No; RoHS Compliant: Yes; Lead Free: 5697LeadFree; ComponentLink1URL: https://datasheet.ciiva.com/7668/1732747-7668019.pdf?src-supplier=Element14; ComponentLink1Description: https://datasheet.ciiva.com/7668/1732747-7668019.pdf?src-supplier=Element14; ComponentLink2URL: https://datasheet.ciiva.com/27052/1573417-27052564.pdf?src-supplier=Jameco; ComponentLink2Description: https://datasheet.ciiva.com/27052/1573417-27052564.pdf?src-supplier=Jameco; ComponentLink3URL: https://datasheet.ciiva.com/257/kem-t2005-t491-257408.pdf?src-supplier=Digikey; ComponentLink3Description: https://datasheet.ciiva.com/257/kem-t2005-t491-257408.pdf?src-supplier=Digikey; ComponentLink4URL: https://datasheet.ciiva.com/7668/1446014-7668021.pdf?src-supplier=Element14; ComponentLink4Description: https://datasheet.ciiva.com/7668/1446014-7668021.pdf?src-supplier=Element14; ComponentLink5URL: https://datasheet.ciiva.com/257/kem-t2005-t491-257407.pdf?src-supplier=Digikey; ComponentLink5Description: https://datasheet.ciiva.com/257/kem-t2005-t491-257407.pdf?src-supplier=Digikey; ComponentLink6URL: https://datasheet.ciiva.com/257/kem-t2005-t491-257409.pdf?src-supplier=Digikey; ComponentLink6Description: https://datasheet.ciiva.com/257/kem-t2005-t491-257409.pdf?src-supplier=Digikey; ComponentLink7URL: https://datasheet.ciiva.com/14588/70095774-14588348.pdf?src-supplier=Allied+Electronics; ComponentLink7Description: https://datasheet.ciiva.com/14588/70095774-14588348.pdf?src-supplier=Allied+Electronics; ComponentLink8URL: https://datasheet.ciiva.com/14589/70095774-14589016.pdf?src-supplier=Allied+Electronics; ComponentLink8Description: https://datasheet.ciiva.com/14589/70095774-14589016.pdf?src-supplier=Allied+Electronics; ComponentLink9Description: Link Digikey; ComponentLink9URL: https://www.digikey.com/en/products/detail/kemet/T491A475K010AT/818557
footprint SMD-CAP-TAN-1206-KEMET
pins: 1, 2

## CAP; CAP_TAN; 10uF; 10V; T491A106M010AT
designator C?, comment value 10uF  Package: 1206  (hidden comment: 10 µF Molded Tantalum Capacitors 10 V 1206 (3216 Metric) 3.8Ohm)
Capacitor, Tantalum, Solid, Polarized, 10 V, 10 Uf, Surface Mount, 1206, Lead Free; Manufacturer: KEMET; Manufacturer Part Number: T491A106M010AT; Tolerance: 20%; ESR (Equivalent Series Resistance): 4R; Voltage Rating: 10V; Leakage Current: 1uA; Polarity: Polar; Dissipation Factor: 6%; Ripple Current: 137mA; Designer: TVBac; Supplier: Mouser; Supplier Part Number: 80-T491A106M010; RoHS: Yes; Category: Tantalum Capacitors; Stock: 78299; Pricing: 1=0.29, 10=0.152, 50=0.152, 100=0.098, 1000=0.083, 2000=0.076, 10000=0.071, 50000=0.069 (USD); Mounting Technology: Surface Mount,PCB; Case/Package: 1206; Pins: 2; Case Code (Metric): 3216; Case Code (Imperial): 1206; Weight: 0.000571oz; Dielectric Material: Tantalum; Min Operating Temperature: -55°C; Max Operating Temperature: 125°C; Packaging: Tape and Reel; Voltage Rating (DC): 10V; Termination: SMD/SMT; Voltage: 10V; Features: General Purpose; Series: T491; Construction: Flat; Length: 3.2mm; Width: 1.6mm; Height: 1.6mm; Depth: 1.6mm; Lead Pitch: 1.2mm; Size: 1.6mm; Reach SVHC Compliant: No; Lead Free: Lead Free; RoHS Compliant: Yes; ComponentLink1URL: https://datasheet.ciiva.com/27052/1573273-27052561.pdf?src-supplier=Jameco; ComponentLink1Description: https://datasheet.ciiva.com/27052/1573273-27052561.pdf?src-supplier=Jameco; ComponentLink2URL: https://datasheet.ciiva.com/257/kem-t2005-t491-257587.pdf?src-supplier=Digikey; ComponentLink2Description: https://datasheet.ciiva.com/257/kem-t2005-t491-257587.pdf?src-supplier=Digikey; ComponentLink3URL: https://datasheet.ciiva.com/7668/kem-t2005-t491-7668140.pdf?src-supplier=Element14; ComponentLink3Description: https://datasheet.ciiva.com/7668/kem-t2005-t491-7668140.pdf?src-supplier=Element14; ComponentLink4URL: https://datasheet.ciiva.com/257/kem-t2005-t491-257588.pdf?src-supplier=Digikey; ComponentLink4Description: https://datasheet.ciiva.com/257/kem-t2005-t491-257588.pdf?src-supplier=Digikey; ComponentLink5URL: https://datasheet.ciiva.com/257/kem-t2005-t491-257589.pdf?src-supplier=Digikey; ComponentLink5Description: https://datasheet.ciiva.com/257/kem-t2005-t491-257589.pdf?src-supplier=Digikey; ComponentLink6URL: https://datasheet.ciiva.com/14601/70095774-14601994.pdf?src-supplier=Allied+Electronics; ComponentLink6Description: https://datasheet.ciiva.com/14601/70095774-14601994.pdf?src-supplier=Allied+Electronics; ComponentLink7URL: https://datasheet.ciiva.com/14602/70095774-14602172.pdf?src-supplier=Allied+Electronics; ComponentLink7Description: https://datasheet.ciiva.com/14602/70095774-14602172.pdf?src-supplier=Allied+Electronics; ComponentLink8URL: https://datasheet.ciiva.com/12910/kem-t2005-t491-12910559.pdf?src-supplier=Mouser; ComponentLink8Description: https://datasheet.ciiva.com/12910/kem-t2005-t491-12910559.pdf?src-supplier=Mouser; ComponentLink9Description: Link Digikey; ComponentLink9URL: https://www.digikey.com/en/products/detail/kemet/T491A106M010AT/818547
footprint SMD-CAP-TAN-1206-KEMET
pins: 1, 2

## CAP; CAP_TAN; 22uF; 10V; T491A226K010AT
designator C?, comment value 22uF  Package: 1206  (hidden comment: 22 µF Molded Tantalum Capacitors 10 V 1206 (3216 Metric) 3.2Ohm)
Surface Mount Tantalum Capacitor, 22 uF, 10 V, ± 10%, -55 °C, 125 °C, 1206 [3216-18 Metric]; Manufacturer: KEMET; Manufacturer Part Number: T491A226K010AT; Designer: TVBac; Supplier: Digikey; Supplier Part Number: 399-8280-1-ND; RoHS: Yes; Category: Tantalum Capacitors; Stock: 5329; Pricing: 1=0.48, 10=0.243, 50=0.2056, 100=0.168, 500=0.16776 (USD); ComponentLink1URL: https://datasheet.ciiva.com/22697/1854511-22697639.pdf?src-supplier=Element14; ComponentLink1Description: https://datasheet.ciiva.com/22697/1854511-22697639.pdf?src-supplier=Element14; ComponentLink2URL: https://datasheet.ciiva.com/12910/kem-t2005-t491-12910493.pdf?src-supplier=Mouser; ComponentLink2Description: https://datasheet.ciiva.com/12910/kem-t2005-t491-12910493.pdf?src-supplier=Mouser; ComponentLink3URL: https://datasheet.ciiva.com/7668/1854511-7668014.pdf?src-supplier=Element14; ComponentLink3Description: https://datasheet.ciiva.com/7668/1854511-7668014.pdf?src-supplier=Element14; ComponentLink4URL: https://datasheet.ciiva.com/7668/1854511-7668015.pdf?src-supplier=Element14; ComponentLink4Description: https://datasheet.ciiva.com/7668/1854511-7668015.pdf?src-supplier=Element14; ComponentLink5URL: https://datasheet.ciiva.com/6228/kem-t2005-t491-6228234.pdf?src-supplier=Digikey; ComponentLink5Description: https://datasheet.ciiva.com/6228/kem-t2005-t491-6228234.pdf?src-supplier=Digikey; ComponentLink6URL: https://datasheet.ciiva.com/6228/kem-t2005-t491-6228238.pdf?src-supplier=Digikey; ComponentLink6Description: https://datasheet.ciiva.com/6228/kem-t2005-t491-6228238.pdf?src-supplier=Digikey; ComponentLink7URL: https://datasheet.ciiva.com/5933/1446014-5933609.pdf?src-supplier=Farnell; ComponentLink7Description: https://datasheet.ciiva.com/5933/1446014-5933609.pdf?src-supplier=Farnell; ComponentLink8Description: Link Digikey; ComponentLink8URL: https://www.digikey.com/en/products/detail/kemet/T491A226K010AT/2336197
footprint SMD-CAP-TAN-1206-KEMET
pins: 1, 2

## CAP; CAP_TAN; 47uF; 10V; T491A226K010AT
designator C?, comment value 47uF  Package: 1206  (hidden comment: 47 µF Molded Tantalum Capacitors 10 V 1206 (3216 Metric) 1Ohm @ 100kHz)
Surface Mount Tantalum Capacitor, 22 uF, 10 V, ± 10%, -55 °C, 125 °C, 1206 [3216-18 Metric]; Manufacturer: KEMET; Manufacturer Part Number: T491A226K010AT; Designer: TVBac; Supplier: Digikey; Supplier Part Number: 399-8280-1-ND; RoHS: Yes; Category: Tantalum Capacitors; Stock: 5329; Pricing: 1=0.48, 10=0.243, 50=0.2056, 100=0.168, 500=0.16776 (USD); ComponentLink1URL: https://datasheet.ciiva.com/22697/1854511-22697639.pdf?src-supplier=Element14; ComponentLink1Description: https://datasheet.ciiva.com/22697/1854511-22697639.pdf?src-supplier=Element14; ComponentLink2URL: https://datasheet.ciiva.com/12910/kem-t2005-t491-12910493.pdf?src-supplier=Mouser; ComponentLink2Description: https://datasheet.ciiva.com/12910/kem-t2005-t491-12910493.pdf?src-supplier=Mouser; ComponentLink3URL: https://datasheet.ciiva.com/7668/1854511-7668014.pdf?src-supplier=Element14; ComponentLink3Description: https://datasheet.ciiva.com/7668/1854511-7668014.pdf?src-supplier=Element14; ComponentLink4URL: https://datasheet.ciiva.com/7668/1854511-7668015.pdf?src-supplier=Element14; ComponentLink4Description: https://datasheet.ciiva.com/7668/1854511-7668015.pdf?src-supplier=Element14; ComponentLink5URL: https://datasheet.ciiva.com/6228/kem-t2005-t491-6228234.pdf?src-supplier=Digikey; ComponentLink5Description: https://datasheet.ciiva.com/6228/kem-t2005-t491-6228234.pdf?src-supplier=Digikey; ComponentLink6URL: https://datasheet.ciiva.com/6228/kem-t2005-t491-6228238.pdf?src-supplier=Digikey; ComponentLink6Description: https://datasheet.ciiva.com/6228/kem-t2005-t491-6228238.pdf?src-supplier=Digikey; ComponentLink7URL: https://datasheet.ciiva.com/5933/1446014-5933609.pdf?src-supplier=Farnell; ComponentLink7Description: https://datasheet.ciiva.com/5933/1446014-5933609.pdf?src-supplier=Farnell; ComponentLink8Description: Link Digikey; ComponentLink8URL: https://www.digikey.com/en/products/detail/kemet/T490A476M010ATE1K0/12546469
footprint SMD-CAP-TAN-1206-KEMET
pins: 1, 2

## CAP; CAP_TAN; 100uF; 6V; T490A107M006ATE800
designator C?, comment value 100uF  Package: 1206  (hidden comment: 100 µF Molded Tantalum Capacitors 6 V 1206 (3216 Metric))
Cap Tant Solid 100uF 6.3V A CASE 20% (3.2 X 1.6 X 1.6mm) Inward L SMD 3216-18 0.8 Ohm 125C T/R; Manufacturer: KEMET; Manufacturer Part Number: T490A107M006ATE800; ESR (Equivalent Series Resistance): 800mR; Designer: TVBac; Supplier: Digikey; Supplier Part Number: 399-18374-1-ND; RoHS: Yes; Category: Tantalum Capacitors; Stock: 4344; Pricing: 1=0.71, 10=0.419, 50=0.3744, 100=0.33, 500=0.294, 1000=0.266 (USD); Mounting Technology: Surface Mount; Case/Package: 1206; Case Code (Imperial): 1206; Case Code (Metric): 3216; Min Operating Temperature: -55°C; Max Operating Temperature: 125°C; Packaging: Cut Tape; Tolerance: 20%; Features: General Purpose; Series: T490; Voltage Rating: 6.3V; Construction: Flat; Length: 3.2mm; Height: 1.6mm; RoHS Compliant: Yes; ComponentLink1URL: http://www.farnell.com/datasheets/2319485.pdf?src-supplier=Farnell; ComponentLink1Description: http://www.farnell.com/datasheets/2319485.pdf?src-supplier=Farnell; ComponentLink2URL: https://datasheet.octopart.com/T490A107M006ATE800-KEMET-datasheet-68586799.pdf?src-supplier=Newark; ComponentLink2Description: https://datasheet.octopart.com/T490A107M006ATE800-KEMET-datasheet-68586799.pdf?src-supplier=Newark; ComponentLink3URL: https://datasheet.octopart.com/T490A107M006ATE800-KEMET-datasheet-85394776.pdf?src-supplier=Element14; ComponentLink3Description: https://datasheet.octopart.com/T490A107M006ATE800-KEMET-datasheet-85394776.pdf?src-supplier=Element14; ComponentLink4URL: https://api.kemet.com/component-edge/download/datasheet/T490A107M006ATE800.pdf?src-supplier=Digikey; ComponentLink4Description: https://api.kemet.com/component-edge/download/datasheet/T490A107M006ATE800.pdf?src-supplier=Digikey; ComponentLink5URL: http://capacitoredge.kemet.com/capedge2/DataSheet/Datasheet-T490A107M006ATE800.pdf?pn=T490A107M006ATE800&src-supplier=Avnet; ComponentLink5Description: http://capacitoredge.kemet.com/capedge2/DataSheet/Datasheet-T490A107M006ATE800.pdf?pn=T490A107M006ATE800&src-supplier=Avnet; ComponentLink6URL: https://datasheet.octopart.com/T490A107M006ATE800-KEMET-datasheet-181972689.pdf?src-supplier=Farnell; ComponentLink6Description: https://datasheet.octopart.com/T490A107M006ATE800-KEMET-datasheet-181972689.pdf?src-supplier=Farnell; ComponentLink7Description: Link Digikey; ComponentLink7URL: https://www.digikey.com/en/products/detail/kemet/T490A107M006ATE800/9460096
footprint SMD-CAP-TAN-1206-KEMET
pins: 1, 2

## CAP; TH; 0.001uF; 50V; FA28NP01H102JNU06
designator C?, comment value 1nF  (hidden comment: 1000 pF ±5% 50V Ceramic Capacitor C0G, NP0 Radial)
Capacitor Ceramic 0.001uF 50V C0G 5% 5mm T/R; Manufacturer: TDK; Manufacturer Part Number: FA28NP01H102JNU06; Lead/Base Style: Kinked; Designer: TVBac; Supplier: Digikey; Supplier Part Number: 445-180768-1-ND; Category: Ceramic Capacitors; Stock: 2260; Pricing: 1=0.37, 10=0.22, 50=0.1588, 100=0.1398, 500=0.1073, 1000=0.09719 (USD); Mounting Technology: Through Hole; Case/Package: Radial; Min Operating Temperature: -55°C; Max Operating Temperature: 150°C; Packaging: Tape and Reel; Voltage Rating: 50V; Tolerance: 5%; Features: High Temperature; Series: FA; Length: 0.157inch; Width: 0.098inch; Height - Seated (Max): 0.217inch; Lead Pitch: 0.197inch; Ratings: AEC-Q200; RoHS Compliant: Yes; ComponentLink1URL: https://product.tdk.com/info/en/catalog/datasheets/leadmlcc_halogenfree_fa150_en.pdf?src-supplier=Digikey; ComponentLink1Description: https://product.tdk.com/info/en/catalog/datasheets/leadmlcc_halogenfree_fa150_en.pdf?src-supplier=Digikey; ComponentLink2URL: https://datasheet.octopart.com/FA28NP01H102JNU06-TDK-datasheet-155378142.pdf?src-supplier=TDK; ComponentLink2Description: https://datasheet.octopart.com/FA28NP01H102JNU06-TDK-datasheet-155378142.pdf?src-supplier=TDK; ComponentLink3URL: https://datasheet.octopart.com/FA28NP01H102JNU06-TDK-datasheet-154546129.pdf?src-supplier=Farnell; ComponentLink3Description: https://datasheet.octopart.com/FA28NP01H102JNU06-TDK-datasheet-154546129.pdf?src-supplier=Farnell; ComponentLink4Description: Link Digikey; ComponentLink4URL: https://www.digikey.com/en/products/detail/tdk-corporation/FA28NP01H102JNU06/5866347
footprint TH-CAP-HxLxW-5.5x4.0x2.5-TDKC
pins: 1, 2

## CAP; TH; 1nF;1KV;  CK45-B3AD102KYGNA
designator C?, comment value 1nF  (hidden comment: 1000 pF ±10% 1000V (1kV) Ceramic Capacitor B Radial, Disc)
Ceramic Capacitor, Ceramic, 1000V, 10% +Tol, 10% -Tol, B, 10% TC, 0.001uF, Through Hole Mount; Manufacturer: TDK; Manufacturer Part Number: CK45-B3AD102KYGNA; Lead/Base Style: Kinked; Designer: TVBac; Supplier: Arrow Electronics; Supplier Part Number: CK45-B3AD102KYGNA; RoHS: Yes; Category: Ceramic Capacitors; Stock: 1513; Pricing: 1513=0.0557 (USD); Mounting Technology: Through Hole; Case/Package: Radial; Contact Plating: Tin; Min Operating Temperature: -25°C; Max Operating Temperature: 105°C; Package Quantity: 1000; Packaging: Bulk; Tolerance: 10%; Voltage Rating: 1kV; Series: CK45; Height - Seated (Max): 0.394inch; Lead Pitch: 0.197inch; RoHS Compliant: Yes; ComponentLink1URL: https://product.tdk.com/info/en/catalog/datasheets/leaddisc_commercial_ck45_en.pdf?src-supplier=Avnet; ComponentLink1Description: https://product.tdk.com/info/en/catalog/datasheets/leaddisc_commercial_ck45_en.pdf?src-supplier=Avnet; ComponentLink2URL: https://product.tdk.com/info/en/catalog/datasheets/leaddisc_commercial_ck45_en.pdf?src-supplier=Digikey; ComponentLink2Description: https://product.tdk.com/info/en/catalog/datasheets/leaddisc_commercial_ck45_en.pdf?src-supplier=Digikey; ComponentLink3Description: Link Digikey; ComponentLink3URL: https://www.digikey.com/en/products/detail/tdk-corporation/CK45-B3AD102KYGNA/4457519
footprint TH-CAP-HxLxW-5.5x4.0x2.5-TDKC
pins: 1, 2